# Altium footprint library parts.PcbLib: 5 footprints
Each footprint in its own frame and in the unit in brackets; x right, y up, seen from the top. Pads: shape width x height; smd on the part's side, far side on the other; paste and mask are expansions set on the pad; w line width, h text height; cw(c..) or ccw(c..) is an arc to the next point about the centre after c.
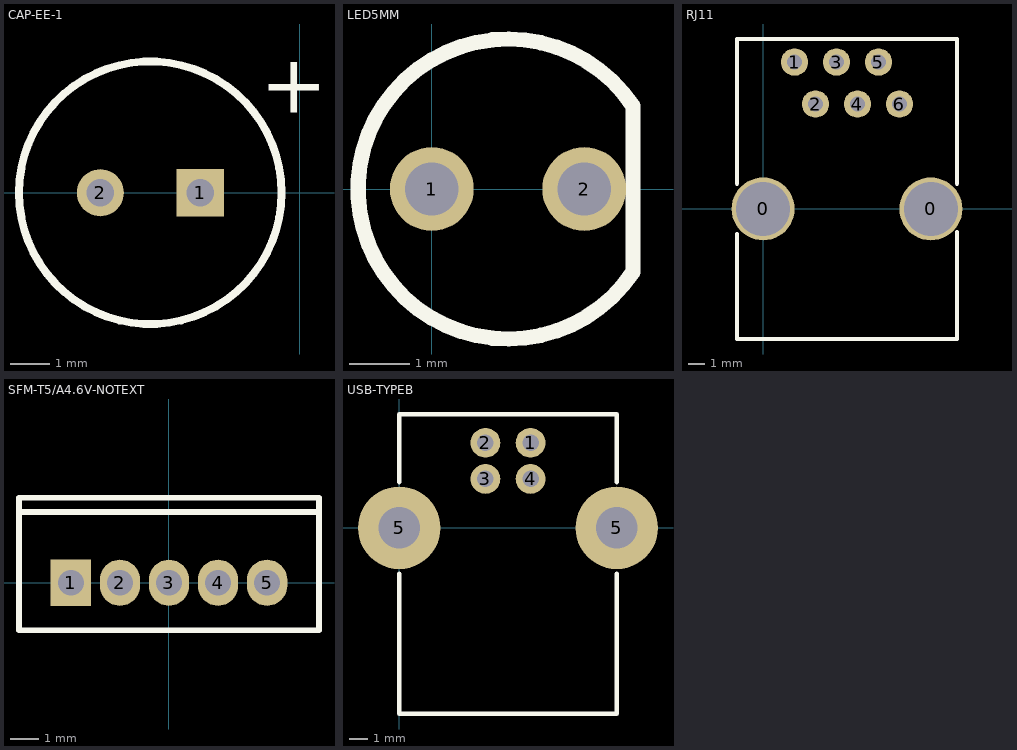
[diagram p0: the footprints below, top view; thin cyan lines are the x and y axes]

## CAP-EE-1 [mm]
pads (2):
  rect 1.2x1.2 hole 0.7: 1(-2.54,0)
  round 1.2 hole 0.7: 2(-5.08,0)
Top Overlay:
  circle w0.2: c-3.81,0 r3.341
  text "+" at -1.016,2.032 h1.5

## LED5MM [mil]
pads (2):
  round 55 hole 35: 1(0,0) 2(100,0)
Top Overlay:
  lines w10: 131.89,-54.6 cw(c50,0) 131.89,54.6 ; 132,-53 132,53

## RJ11 [mil]
pads (8):
  round 150 hole 128: 0(0,0) 0(400,0)
  round 65 hole 35: 1(75,350) 2(125,250) 3(175,350) 4(225,250) 5(275,350) 6(325,250)
Top Overlay:
  lines w10: -62.5,-60 -62.5,-310 462.5,-310 462.5,-55 ; -62.5,60 -62.5,405 ; 462.5,60 462.5,405 ; -62.5,405 462.5,405 ; -62.5,405 462.5,405

## SFM-T5/A4.6V-NOTEXT [mm]
pads (5):
  rect 1.4x1.6 hole 0.9: 1(-3.4,0)
  oval 1.4x1.6 hole 0.9: 2(-1.7,0) 3(0,0) 4(1.7,0) 5(3.4,0)
Top Overlay:
  lines w0.2: -5.2,2.45 5.2,2.45 ; -5.2,-1.65 -5.2,2.95 5.2,2.95 5.2,-1.65 -5.2,-1.65

## USB-TYPEB [mm]
pads (6):
  round 1.651 hole 0.92: 1(7.27,4.71) 2(4.77,4.71) 3(4.77,2.71) 4(7.27,2.71)
  round 4.572 hole 2.3: 5(0,0) 5(12.04,0)
Top Overlay:
  lines w0.254: 0,-2.54 0,-10.3 12.04,-10.3 12.04,-2.54 ; 0,2.54 0,6.3 12.04,6.3 12.04,2.54